# EAGLE library part TI-TS5A23159 (library lz-shield)
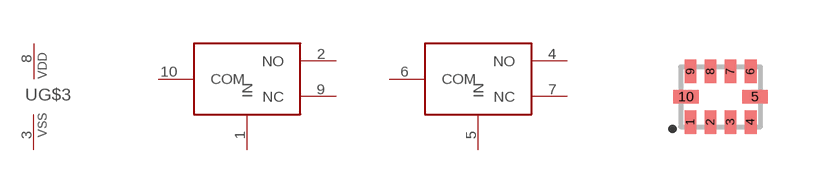
[diagram p2: symbol with the pads of UQFN10; footprint UQFN10]

Designator prefix -; gates G$1=TS5A23159A G$2=TS5A23159A G$3=PWRN

## TI-TS5A23159  [UQFN10]
1  G$1:IN
2  G$1:NO
3  G$3:VSS  pwr
4  G$2:NO
5  G$2:IN
6  G$2:COM
7  G$2:NC
8  G$3:VDD  pwr
9  G$1:NC
10  G$1:COM

## Footprint UQFN10 (pad centres in mm)
smd 0.3 x 0.58: 1 -0.75,-0.635; 2 -0.25,-0.635; 3 0.25,-0.635; 4 0.75,-0.635; 6 0.75,0.635; 7 0.25,0.635; 8 -0.25,0.635; 9 -0.75,0.635
smd 0.63 x 0.35: 5 0.86,0; 10 -0.86,0